# Altium footprint library PCB - RESISTOR - CHIP - RES 0603_1608.PCBLIB: 1 footprints
Each footprint in its own frame and in the unit in brackets; x right, y up, seen from the top. Pads: shape width x height; smd on the part's side, far side on the other; paste and mask are expansions set on the pad; w line width, h text height; cw(c..) or ccw(c..) is an arc to the next point about the centre after c.
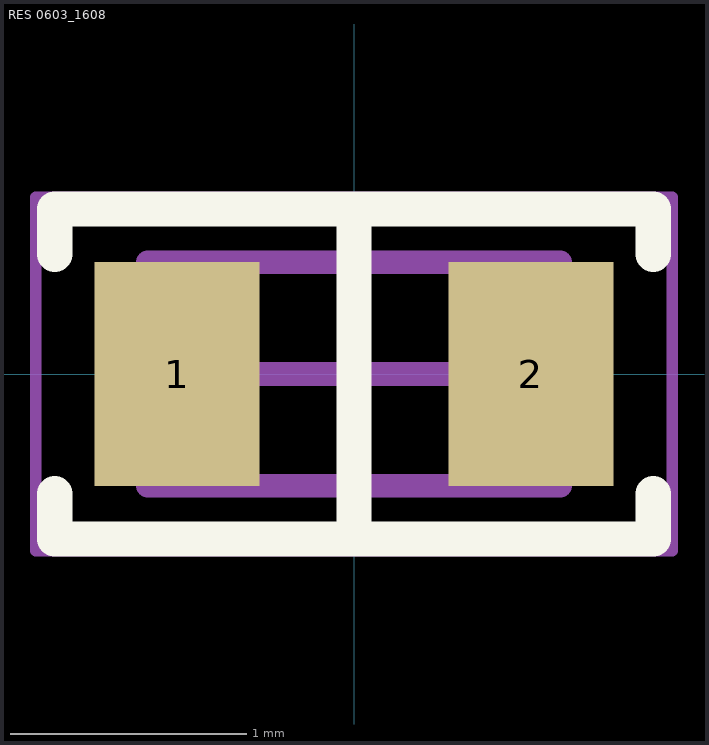
[diagram p0: the footprint, top view; thin cyan lines are the x and y axes]

## RES 0603_1608 [mm] "Chip Resistor, 2-Leads, Body 1.60x0.80mm, IPC Medium Density"
height 0.45
pads (2):
  rect 0.7x0.95 smd: 1(-0.75,0) 2(0.75,0)
Top Overlay:
  lines w0.15: -1.27,-0.508 -1.27,-0.7 1.27,-0.7 1.27,-0.508 ; -1.27,0.508 -1.27,0.7 1.27,0.7 1.27,0.508 ; 0,-0.7 0,0.7
Mechanical 13:
  lines w0.1: -0.875,-0.475 -0.875,0.475 0.875,0.475 0.875,-0.475 -0.875,-0.475
Mechanical 15:
  lines w0.05: -1.35,-0.75 -1.35,0.75 1.35,0.75 1.35,-0.75 -1.35,-0.75
  lines w0.1: -0.475,0 0.475,0 ; 0,-0.475 0,0.475
3D body "0603 resistor.STEP": height 0.45, standoff 0, extent -0.8,-0.4 0.8,0.4